# Altium footprint library BMI088.PcbLib: 1 footprints
Each footprint in its own frame and in the unit in brackets; x right, y up, seen from the top. Pads: shape width x height; smd on the part's side, far side on the other; paste and mask are expansions set on the pad; w line width, h text height; cw(c..) or ccw(c..) is an arc to the next point about the centre after c.
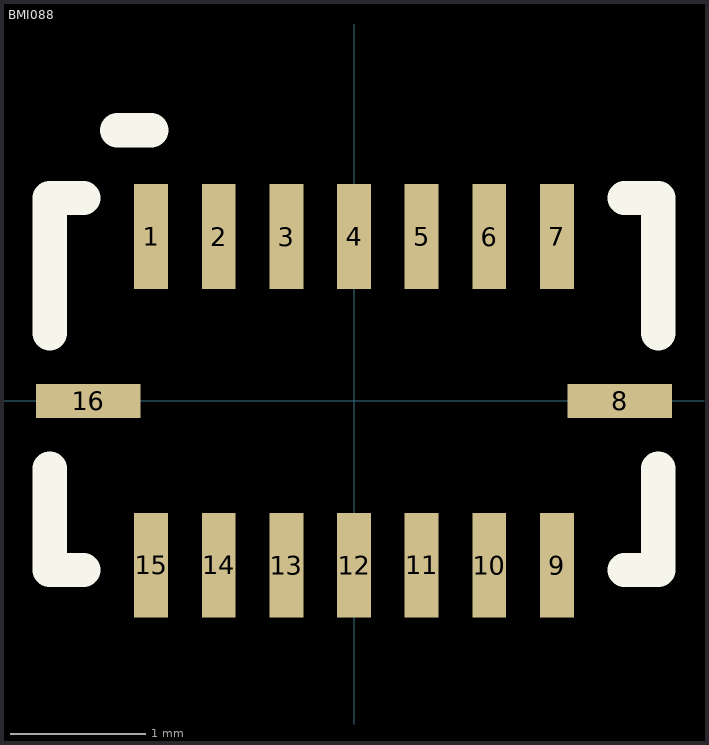
[diagram p0: the footprint, top view; thin cyan lines are the x and y axes]

## BMI088 [mm] "BMI088 IMU"
pads (16):
  rect 0.25x0.775 smd mask+0.075: 1(-1.5,1.215) 2(-1,1.215) 3(-0.5,1.215) 4(0,1.215) 5(0.5,1.215) 6(1,1.215) 7(1.5,1.215) 9(1.5,-1.215) 10(1,-1.215) 11(0.5,-1.215) 12(0,-1.215) 13(-0.5,-1.215) 14(-1,-1.215) 15(-1.5,-1.215)
  rect 0.775x0.25 smd mask+0.1: 8(1.965,0) 16(-1.965,0)
Top Overlay:
  lines w0.254: -2.25,-0.5 -2.25,-1.25 -2,-1.25 ; -2.25,0.5 -2.25,1.5 -2,1.5 ; -1.75,2 -1.5,2 ; 2,-1.25 2.25,-1.25 2.25,-0.5 ; 2,1.5 2.25,1.5 2.25,0.5
3D body "BMI088--3DModel-STEP-56544.STEP": height 1, standoff 0, extent -2.25,-1.5 2.25,1.5